# EAGLE library part FH26W-35S-0.3HW35 (library Seeed-OPL-2017-01-connector-edward)
320060024
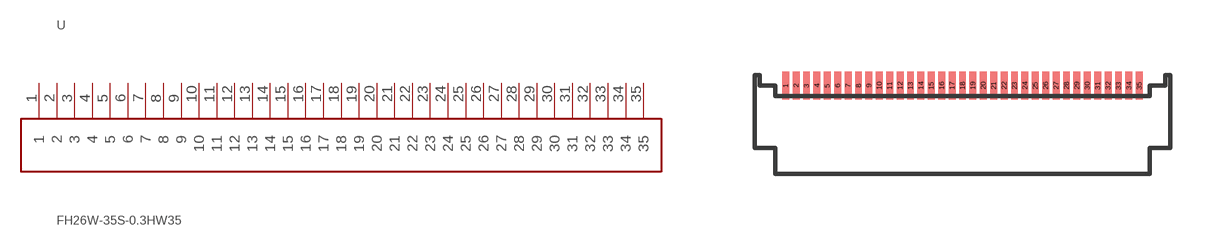
[diagram p3: symbol with the pads of FH26W-35S-0.3SHW(60); footprint FH26W-35S-0.3SHW(60)]

Designator prefix -

## FH26W-35S-0.3HW35  [FH26W-35S-0.3SHW(60)]
1  1
2  2
3  3
4  4
5  5
6  6
7  7
8  8
9  9
10  10
11  11
12  12
13  13
14  14
15  15
16  16
17  17
18  18
19  19
20  20
21  21
22  22
23  23
24  24
25  25
26  26
27  27
28  28
29  29
30  30
31  31
32  32
33  33
34  34
35  35

## Footprint FH26W-35S-0.3SHW(60) (pad centres in mm)
smd 0.2 x 0.8: 1 0.9,0.9; 2 1.2,0.9; 3 1.5,0.9; 4 1.8,0.9; 5 2.1,0.9; 6 2.4,0.9; 7 2.7,0.9; 8 3,0.9; 9 3.3,0.9; 10 3.6,0.9; 11 3.9,0.9; 12 4.2,0.9; 13 4.5,0.9; 14 4.8,0.9; 15 5.1,0.9; 16 5.4,0.9; 17 5.7,0.9; 18 6,0.9; 19 6.3,0.9; 20 6.6,0.9; 21 6.9,0.9; 22 7.2,0.9; 23 7.5,0.9; 24 7.8,0.9; 25 8.1,0.9; 26 8.4,0.9; 27 8.7,0.9; 28 9,0.9; 29 9.3,0.9; 30 9.6,0.9; 31 9.9,0.9; 32 10.2,0.9; 33 10.5,0.9; 34 10.8,0.9; 35 11.1,0.9